# EAGLE library part TEENSY2-C (library teensy2_ams)
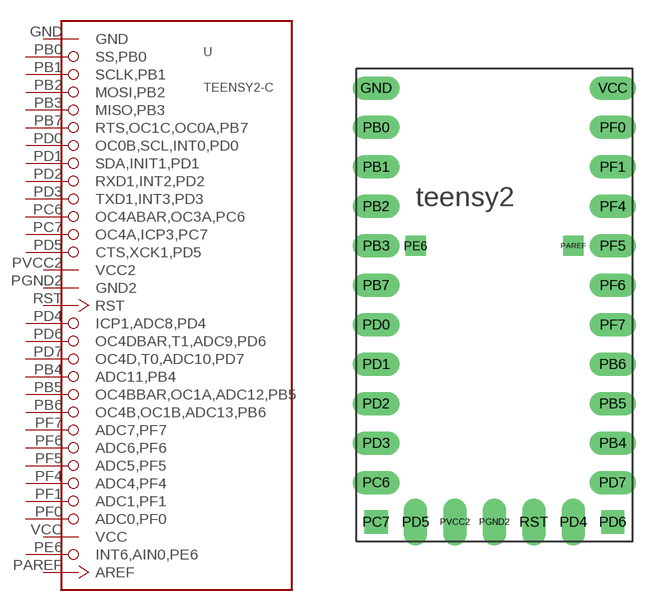
[diagram p0: symbol with the pads of TEENSY2; footprint TEENSY2]

Designator prefix -

## TEENSY2-CC-VERSION  [TEENSY2]
GND  GND  pwr
PAREF  AREF  in
PB0  SS,PB0
PB1  SCLK,PB1
PB2  MOSI,PB2
PB3  MISO,PB3
PB4  ADC11,PB4
PB5  OC4BBAR,OC1A,ADC12,PB5
PB6  OC4B,OC1B,ADC13,PB6
PB7  RTS,OC1C,OC0A,PB7
PC6  OC4ABAR,OC3A,PC6
PC7  OC4A,ICP3,PC7
PD0  OC0B,SCL,INT0,PD0
PD1  SDA,INIT1,PD1
PD2  RXD1,INT2,PD2
PD3  TXD1,INT3,PD3
PD4  ICP1,ADC8,PD4
PD5  CTS,XCK1,PD5
PD6  OC4DBAR,T1,ADC9,PD6
PD7  OC4D,T0,ADC10,PD7
PE6  INT6,AIN0,PE6
PF0  ADC0,PF0
PF1  ADC1,PF1
PF4  ADC4,PF4
PF5  ADC5,PF5
PF6  ADC6,PF6
PF7  ADC7,PF7
PGND2  GND2  pwr
PVCC2  VCC2  pwr
RST  RST  in
VCC  VCC  pwr

## Footprint TEENSY2 (pad centres in mm)
http://pjrc.com/teensy/index.html
drill 1 long: GND 12.7,21.59; PB0 12.7,19.05; PB1 12.7,16.51; PB2 12.7,13.97; PB3 12.7,11.43; PB4 27.94,-1.27; PB5 27.94,1.27; PB6 27.94,3.81; PB7 12.7,8.89; PC6 12.7,-3.81; PD0 12.7,6.35; PD1 12.7,3.81; PD2 12.7,1.27; PD3 12.7,-1.27; PD4 25.4,-6.35; PD5 15.24,-6.35; PD7 27.94,-3.81; PF0 27.94,19.05; PF1 27.94,16.51; PF4 27.94,13.97; PF5 27.94,11.43; PF6 27.94,8.89; PF7 27.94,6.35; PGND2 20.32,-6.35; PVCC2 17.78,-6.35; RST 22.86,-6.35; VCC 27.94,21.59
drill 0.8 square: PAREF 25.4,11.43; PE6 15.24,11.43
drill 1 square: PC7 12.7,-6.35; PD6 27.94,-6.35